# Altium footprint library LED_TH_3MM.PcbLib: 2 footprints
Each footprint in its own frame and in the unit in brackets; x right, y up, seen from the top. Pads: shape width x height; smd on the part's side, far side on the other; paste and mask are expansions set on the pad; w line width, h text height; cw(c..) or ccw(c..) is an arc to the next point about the centre after c.
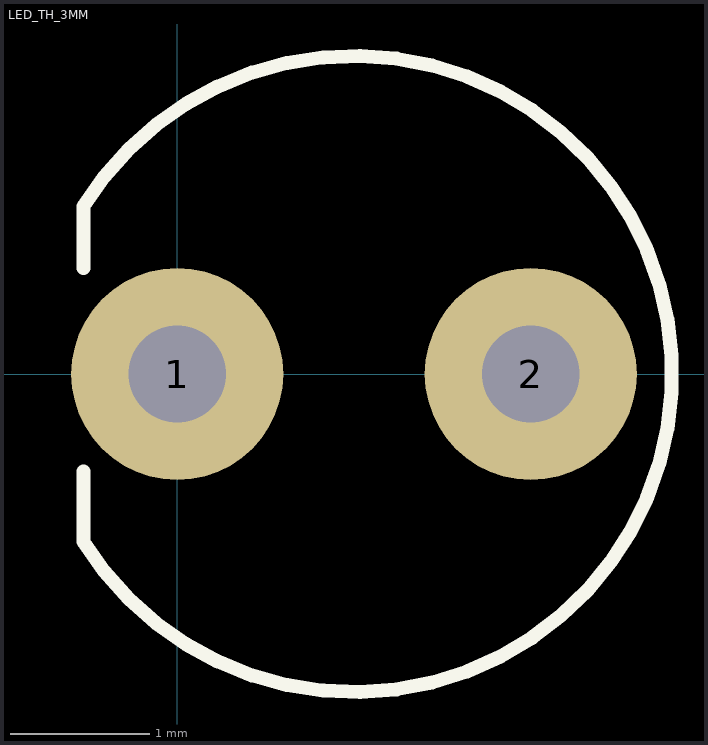
[diagram p0: the footprints below, top view; thin cyan lines are the x and y axes]

## LED_TH_3MM [mil]
pads (2):
  round 60 hole 27.56: 1(0,0) 2(100,0)
Top Overlay:
  lines w3.94: -26.52,-27.63 -26.52,-47.37 ccw(c50,0) -26.52,47.37 -26.52,30

## PCBComponent_1 [mil]